# EAGLE library part ATTINY85 (library Atmel_AVR8)
Atmel 8-bit AVR Microcontroller with 8K Bytes In-System Programmable Flash Features High Performance, Low Power AVR® 8-Bit Microcontroller Advanced RISC Architecture 120 Powerful Instructions – Most Single Clock Cycle Execution 32 x 8 General Purpose Working Registers Fully Static Operation Non-volatile Program and Data Memories 8K Bytes of In-System Programmable Program Memory Flash Endurance: 10,000 Write/Erase Cycles 512 Bytes In-System Programmable EEPROM Endurance: 100,000 Write/Erase Cycles 512 Bytes Internal SRAM Programming Lock for Self-Programming Flash Program and EEPROM Data Security
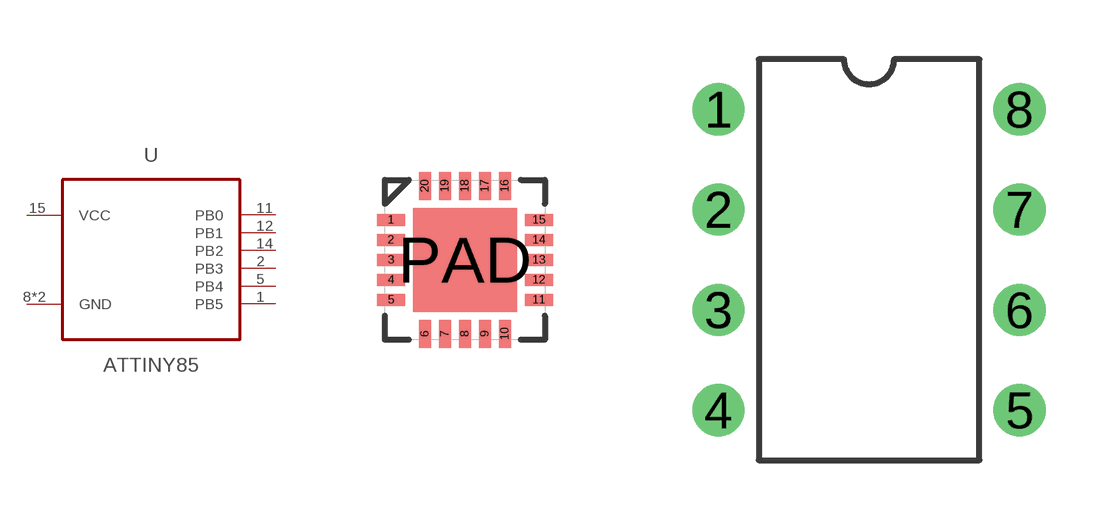
[diagram p4: symbol with the pads of 20M1; footprints 20M1, 8P3]

Designator prefix U

## ATTINY85-20MU, ATTINY85V-10MU  [20M1]
1  PB5
2  PB3
5  PB4
8  GND  pas
11  PB0
12  PB1
14  PB2
15  VCC  pwr
PAD  GND  pas

## ATTINY85-20PU, ATTINY85V-10PU  [8P3]
1  PB5
2  PB3
3  PB4
4  GND  pas
5  PB0
6  PB1
7  PB2
8  VCC  pwr

## ATTINY85-20SU, ATTINY85V-10SU  [8S2]
Pads as for 8P3

## Footprint 20M1 (pad centres in mm)
20-pad, 4 x 4 x 0.8 mm Body, Lead Pitch 0.50 mm, 2.6 mm Exposed Pad, Micro Lead Frame Package (MLF) 0.40 mm Lead Length Atmel PCB Mounting Guidelines for Surface Mount Packages, Page 12 <http://www.atmel.com/images/atmel-8826-seeprom-pcb-mounting-guidelines-surface-mount-packages-applicationnote.pdf#page=12>
smd 0.7 x 0.3: 1 -1.85,1; 2 -1.85,0.5; 3 -1.85,0; 4 -1.85,-0.5; 5 -1.85,-1; 11 1.85,-1; 12 1.85,-0.5; 13 1.85,0; 14 1.85,0.5; 15 1.85,1
smd 0.3 x 0.7: 6 -1,-1.85; 7 -0.5,-1.85; 8 0,-1.85; 9 0.5,-1.85; 10 1,-1.85; 16 1,1.85; 17 0.5,1.85; 18 0,1.85; 19 -0.5,1.85; 20 -1,1.85
smd 2.6 x 2.6: PAD 0,0

## Footprint 8P3 (pad centres in mm)
8-lead, 0.300" Wide Body, Plastic Dual In-line Package (PDIP)
drill 0.813: 1 -3.81,3.81; 2 -3.81,1.27; 3 -3.81,-1.27; 4 -3.81,-3.81; 5 3.81,-3.81; 6 3.81,-1.27; 7 3.81,1.27; 8 3.81,3.81

## Footprint 8S2 (pad centres in mm)
8-lead, 0.208” Body, Plastic Small Outline Package (EIAJ) Atmel PCB Mounting Guidelines for Surface Mount Packages, Page 6 <http://www.atmel.com/images/atmel-8826-seeprom-pcb-mounting-guidelines-surface-mount-packages-applicationnote.pdf#page=6>
smd 1.8 x 0.6: 1 -3.55,1.905; 2 -3.55,0.635; 3 -3.55,-0.635; 4 -3.55,-1.905; 5 3.55,-1.905; 6 3.55,-0.635; 7 3.55,0.635; 8 3.55,1.905